# Altium footprint library con-yamaichi.PCBLIB: 44 footprints (part 3 of 3)
Each footprint in its own frame and in the unit in brackets; x right, y up, seen from the top. Pads: shape width x height; smd on the part's side, far side on the other; paste and mask are expansions set on the pad; w line width, h text height; cw(c..) or ccw(c..) is an arc to the next point about the centre after c.
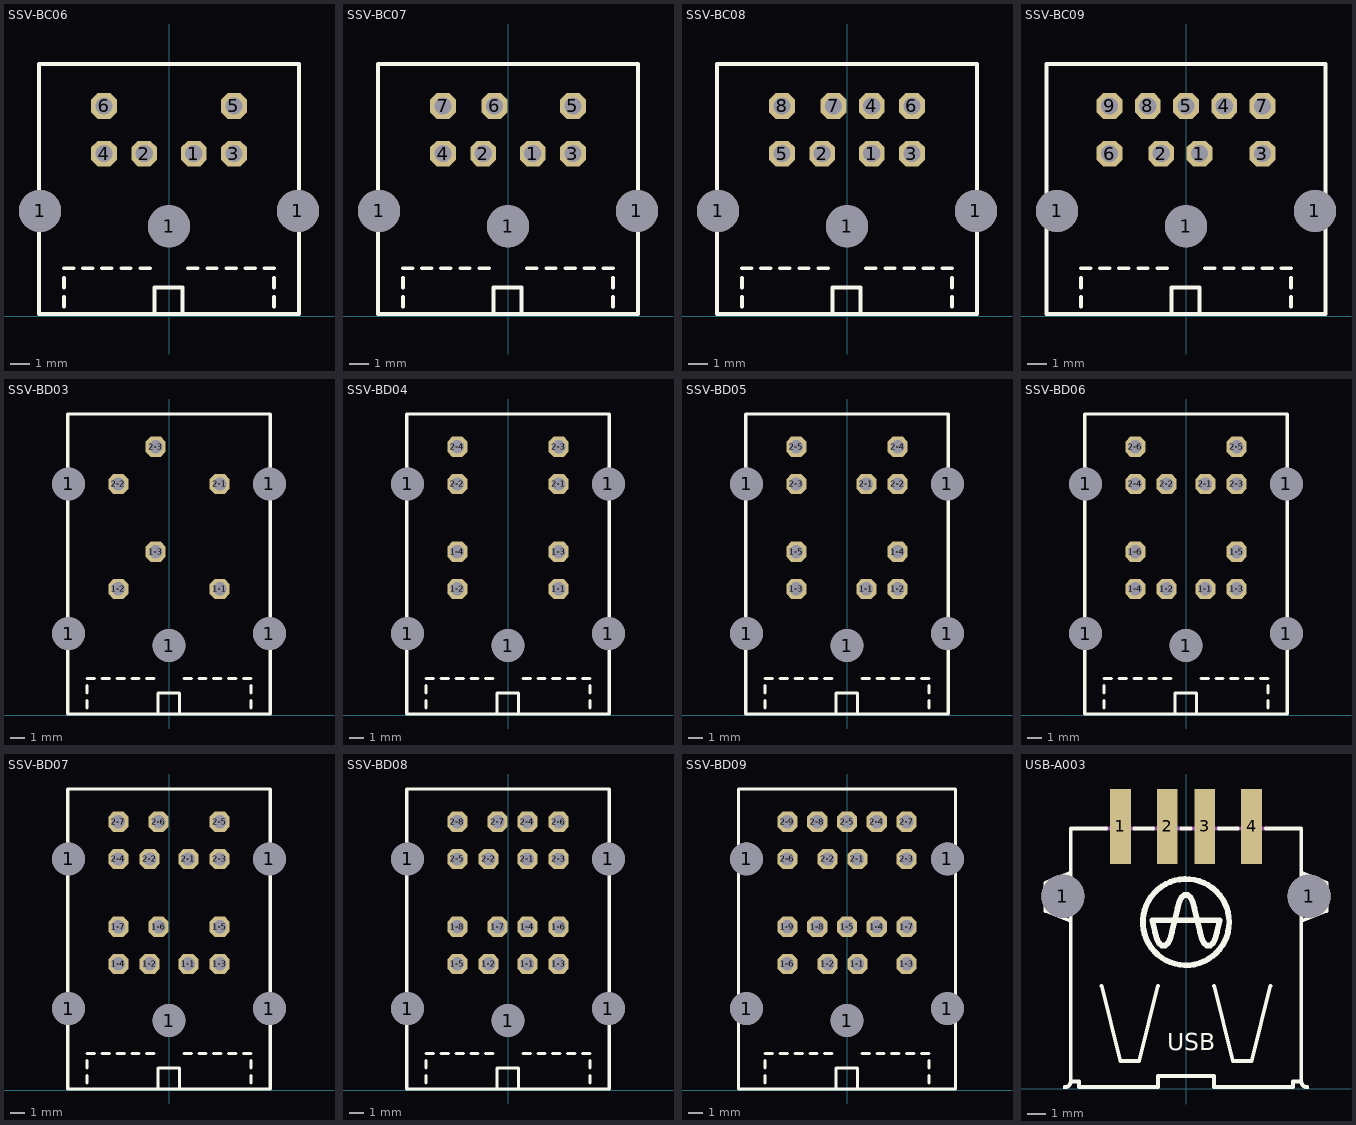
[diagram p2: the footprints below, top view; thin cyan lines are the x and y axes]

## SSV-BC06 [mm]
pads (9):
  round 2.2 hole 2.2: 1(-6.75,5.5) 1(0,4.7) 1(6.75,5.5)
  oct 1.35x1.35 hole 0.9: 1(1.3,8.5) 2(-1.3,8.5) 3(3.4,8.5) 4(-3.4,8.5) 5(3.4,11) 6(-3.4,11)
Top Overlay:
  lines w0.203: -5.5,0.5 -5.5,1 ; -5.5,1.5 -5.5,2 ; -5.5,2.5 -5,2.5 ; -4.5,2.5 -4,2.5 ; -3.5,2.5 -3,2.5 ; -2.5,2.5 -2,2.5 ; -1.5,2.5 -1,2.5 ; -0.75,0.1 -0.75,1.5 0.7,1.5 0.7,0.1 ; 1,2.5 1.5,2.5 ; 2,2.5 2.5,2.5 ; 3,2.5 3.5,2.5 ; 4,2.5 4.5,2.5 ; 5,2.5 5.5,2.5 ; 5.5,0.5 5.5,1 ; 5.5,1.5 5.5,2 ; -6.8,0.1 6.8,0.1 6.8,13.2 -6.8,13.2 -6.8,0.1

## SSV-BC07 [mm]
pads (10):
  round 2.2 hole 2.2: 1(-6.75,5.5) 1(0,4.7) 1(6.75,5.5)
  oct 1.35x1.35 hole 0.9: 1(1.3,8.5) 2(-1.3,8.5) 3(3.4,8.5) 4(-3.4,8.5) 5(3.4,11) 6(-0.7,11) 7(-3.4,11)
Top Overlay:
  lines w0.203: -5.5,0.5 -5.5,1 ; -5.5,1.5 -5.5,2 ; -5.5,2.5 -5,2.5 ; -4.5,2.5 -4,2.5 ; -3.5,2.5 -3,2.5 ; -2.5,2.5 -2,2.5 ; -1.5,2.5 -1,2.5 ; -0.75,0.1 -0.75,1.5 0.7,1.5 0.7,0.1 ; 1,2.5 1.5,2.5 ; 2,2.5 2.5,2.5 ; 3,2.5 3.5,2.5 ; 4,2.5 4.5,2.5 ; 5,2.5 5.5,2.5 ; 5.5,0.5 5.5,1 ; 5.5,1.5 5.5,2 ; -6.8,0.1 6.8,0.1 6.8,13.2 -6.8,13.2 -6.8,0.1

## SSV-BC08 [mm]
pads (11):
  round 2.2 hole 2.2: 1(-6.75,5.5) 1(0,4.7) 1(6.75,5.5)
  oct 1.35x1.35 hole 0.9: 1(1.3,8.5) 2(-1.3,8.5) 3(3.4,8.5) 4(1.3,11) 5(-3.4,8.5) 6(3.4,11) 7(-0.7,11) 8(-3.4,11)
Top Overlay:
  lines w0.203: -5.5,0.5 -5.5,1 ; -5.5,1.5 -5.5,2 ; -5.5,2.5 -5,2.5 ; -4.5,2.5 -4,2.5 ; -3.5,2.5 -3,2.5 ; -2.5,2.5 -2,2.5 ; -1.5,2.5 -1,2.5 ; -0.75,0.1 -0.75,1.5 0.7,1.5 0.7,0.1 ; 1,2.5 1.5,2.5 ; 2,2.5 2.5,2.5 ; 3,2.5 3.5,2.5 ; 4,2.5 4.5,2.5 ; 5,2.5 5.5,2.5 ; 5.5,0.5 5.5,1 ; 5.5,1.5 5.5,2 ; -6.8,0.1 6.8,0.1 6.8,13.2 -6.8,13.2 -6.8,0.1

## SSV-BC09 [mm]
pads (12):
  round 2.2 hole 2.2: 1(-6.75,5.5) 1(0,4.7) 1(6.75,5.5)
  oct 1.35x1.35 hole 0.9: 1(0.7,8.5) 2(-1.3,8.5) 3(4,8.5) 4(2,11) 5(0,11) 6(-4,8.5) 7(4,11) 8(-2,11) 9(-4,11)
Top Overlay:
  lines w0.203: -5.5,0.5 -5.5,1 ; -5.5,1.5 -5.5,2 ; -5.5,2.5 -5,2.5 ; -4.5,2.5 -4,2.5 ; -3.5,2.5 -3,2.5 ; -2.5,2.5 -2,2.5 ; -1.5,2.5 -1,2.5 ; -0.75,0.1 -0.75,1.5 0.7,1.5 0.7,0.1 ; 1,2.5 1.5,2.5 ; 2,2.5 2.5,2.5 ; 3,2.5 3.5,2.5 ; 4,2.5 4.5,2.5 ; 5,2.5 5.5,2.5 ; 5.5,0.5 5.5,1 ; 5.5,1.5 5.5,2 ; -7.3,0.1 7.3,0.1 7.3,13.2 -7.3,13.2 -7.3,0.1

## SSV-BD03 [mm]
pads (11):
  round 2.2 hole 2.2: 1(-6.75,5.5) 1(-6.75,15.55) 1(0,4.7) 1(6.75,5.5) 1(6.75,15.55)
  oct 1.35x1.35 hole 0.9: 1-1(3.4,8.5) 1-2(-3.4,8.5) 1-3(-0.9,11) 2-1(3.4,15.55) 2-2(-3.4,15.55) 2-3(-0.9,18.05)
Top Overlay:
  lines w0.203: -5.5,0.5 -5.5,1 ; -5.5,1.5 -5.5,2 ; -5.5,2.5 -5,2.5 ; -4.5,2.5 -4,2.5 ; -3.5,2.5 -3,2.5 ; -2.5,2.5 -2,2.5 ; -1.5,2.5 -1,2.5 ; -0.75,0.1 -0.75,1.5 0.7,1.5 0.7,0.1 ; 1,2.5 1.5,2.5 ; 2,2.5 2.5,2.5 ; 3,2.5 3.5,2.5 ; 4,2.5 4.5,2.5 ; 5,2.5 5.5,2.5 ; 5.5,0.5 5.5,1 ; 5.5,1.5 5.5,2 ; -6.8,0.1 6.8,0.1 6.8,20.25 -6.8,20.25 -6.8,0.1

## SSV-BD04 [mm]
pads (13):
  round 2.2 hole 2.2: 1(-6.75,5.5) 1(-6.75,15.55) 1(0,4.7) 1(6.75,5.5) 1(6.75,15.55)
  oct 1.35x1.35 hole 0.9: 1-1(3.4,8.5) 1-2(-3.4,8.5) 1-3(3.4,11) 1-4(-3.4,11) 2-1(3.4,15.55) 2-2(-3.4,15.55) 2-3(3.4,18.05) 2-4(-3.4,18.05)
Top Overlay:
  lines w0.203: -5.5,0.5 -5.5,1 ; -5.5,1.5 -5.5,2 ; -5.5,2.5 -5,2.5 ; -4.5,2.5 -4,2.5 ; -3.5,2.5 -3,2.5 ; -2.5,2.5 -2,2.5 ; -1.5,2.5 -1,2.5 ; -0.75,0.1 -0.75,1.5 0.7,1.5 0.7,0.1 ; 1,2.5 1.5,2.5 ; 2,2.5 2.5,2.5 ; 3,2.5 3.5,2.5 ; 4,2.5 4.5,2.5 ; 5,2.5 5.5,2.5 ; 5.5,0.5 5.5,1 ; 5.5,1.5 5.5,2 ; -6.8,0.1 6.8,0.1 6.8,20.25 -6.8,20.25 -6.8,0.1

## SSV-BD05 [mm]
pads (15):
  round 2.2 hole 2.2: 1(-6.75,5.5) 1(-6.75,15.55) 1(0,4.7) 1(6.75,5.5) 1(6.75,15.55)
  oct 1.35x1.35 hole 0.9: 1-1(1.3,8.5) 1-2(3.4,8.5) 1-3(-3.4,8.5) 1-4(3.4,11) 1-5(-3.4,11) 2-1(1.3,15.55) 2-2(3.4,15.55) 2-3(-3.4,15.55) 2-4(3.4,18.05) 2-5(-3.4,18.05)
Top Overlay:
  lines w0.203: -5.5,0.5 -5.5,1 ; -5.5,1.5 -5.5,2 ; -5.5,2.5 -5,2.5 ; -4.5,2.5 -4,2.5 ; -3.5,2.5 -3,2.5 ; -2.5,2.5 -2,2.5 ; -1.5,2.5 -1,2.5 ; -0.75,0.1 -0.75,1.5 0.7,1.5 0.7,0.1 ; 1,2.5 1.5,2.5 ; 2,2.5 2.5,2.5 ; 3,2.5 3.5,2.5 ; 4,2.5 4.5,2.5 ; 5,2.5 5.5,2.5 ; 5.5,0.5 5.5,1 ; 5.5,1.5 5.5,2 ; -6.8,0.1 6.8,0.1 6.8,20.25 -6.8,20.25 -6.8,0.1

## SSV-BD06 [mm]
pads (17):
  round 2.2 hole 2.2: 1(-6.75,5.5) 1(-6.75,15.55) 1(0,4.7) 1(6.75,5.5) 1(6.75,15.55)
  oct 1.35x1.35 hole 0.9: 1-1(1.3,8.5) 1-2(-1.3,8.5) 1-3(3.4,8.5) 1-4(-3.4,8.5) 1-5(3.4,11) 1-6(-3.4,11) 2-1(1.3,15.55) 2-2(-1.3,15.55) 2-3(3.4,15.55) 2-4(-3.4,15.55) 2-5(3.4,18.05) 2-6(-3.4,18.05)
Top Overlay:
  lines w0.203: -5.5,0.5 -5.5,1 ; -5.5,1.5 -5.5,2 ; -5.5,2.5 -5,2.5 ; -4.5,2.5 -4,2.5 ; -3.5,2.5 -3,2.5 ; -2.5,2.5 -2,2.5 ; -1.5,2.5 -1,2.5 ; -0.75,0.1 -0.75,1.5 0.7,1.5 0.7,0.1 ; 1,2.5 1.5,2.5 ; 2,2.5 2.5,2.5 ; 3,2.5 3.5,2.5 ; 4,2.5 4.5,2.5 ; 5,2.5 5.5,2.5 ; 5.5,0.5 5.5,1 ; 5.5,1.5 5.5,2 ; -6.8,0.1 6.8,0.1 6.8,20.25 -6.8,20.25 -6.8,0.1

## SSV-BD07 [mm]
pads (19):
  round 2.2 hole 2.2: 1(-6.75,5.5) 1(-6.75,15.55) 1(0,4.7) 1(6.75,5.5) 1(6.75,15.55)
  oct 1.35x1.35 hole 0.9: 1-1(1.3,8.5) 1-2(-1.3,8.5) 1-3(3.4,8.5) 1-4(-3.4,8.5) 1-5(3.4,11) 1-6(-0.7,11) 1-7(-3.4,11) 2-1(1.3,15.55) 2-2(-1.3,15.55) 2-3(3.4,15.55) 2-4(-3.4,15.55) 2-5(3.4,18.05) 2-6(-0.7,18.05) 2-7(-3.4,18.05)
Top Overlay:
  lines w0.203: -5.5,0.5 -5.5,1 ; -5.5,1.5 -5.5,2 ; -5.5,2.5 -5,2.5 ; -4.5,2.5 -4,2.5 ; -3.5,2.5 -3,2.5 ; -2.5,2.5 -2,2.5 ; -1.5,2.5 -1,2.5 ; -0.75,0.1 -0.75,1.5 0.7,1.5 0.7,0.1 ; 1,2.5 1.5,2.5 ; 2,2.5 2.5,2.5 ; 3,2.5 3.5,2.5 ; 4,2.5 4.5,2.5 ; 5,2.5 5.5,2.5 ; 5.5,0.5 5.5,1 ; 5.5,1.5 5.5,2 ; -6.8,0.1 6.8,0.1 6.8,20.25 -6.8,20.25 -6.8,0.1

## SSV-BD08 [mm]
pads (21):
  round 2.2 hole 2.2: 1(-6.75,5.5) 1(-6.75,15.55) 1(0,4.7) 1(6.75,5.5) 1(6.75,15.55)
  oct 1.35x1.35 hole 0.9: 1-1(1.3,8.5) 1-2(-1.3,8.5) 1-3(3.4,8.5) 1-4(1.3,11) 1-5(-3.4,8.5) 1-6(3.4,11) 1-7(-0.7,11) 1-8(-3.4,11) 2-1(1.3,15.55) 2-2(-1.3,15.55) 2-3(3.4,15.55) 2-4(1.3,18.05) 2-5(-3.4,15.55) 2-6(3.4,18.05) 2-7(-0.7,18.05) 2-8(-3.4,18.05)
Top Overlay:
  lines w0.203: -5.5,0.5 -5.5,1 ; -5.5,1.5 -5.5,2 ; -5.5,2.5 -5,2.5 ; -4.5,2.5 -4,2.5 ; -3.5,2.5 -3,2.5 ; -2.5,2.5 -2,2.5 ; -1.5,2.5 -1,2.5 ; -0.75,0.1 -0.75,1.5 0.7,1.5 0.7,0.1 ; 1,2.5 1.5,2.5 ; 2,2.5 2.5,2.5 ; 3,2.5 3.5,2.5 ; 4,2.5 4.5,2.5 ; 5,2.5 5.5,2.5 ; 5.5,0.5 5.5,1 ; 5.5,1.5 5.5,2 ; -6.8,0.1 6.8,0.1 6.8,20.25 -6.8,20.25 -6.8,0.1

## SSV-BD09 [mm]
pads (23):
  round 2.2 hole 2.2: 1(-6.75,5.5) 1(-6.75,15.55) 1(0,4.7) 1(6.75,5.5) 1(6.75,15.55)
  oct 1.35x1.35 hole 0.9: 1-1(0.7,8.5) 1-2(-1.3,8.5) 1-3(4,8.5) 1-4(2,11) 1-5(0,11) 1-6(-4,8.5) 1-7(4,11) 1-8(-2,11) 1-9(-4,11) 2-1(0.7,15.55) 2-2(-1.3,15.55) 2-3(4,15.55) 2-4(2,18.05) 2-5(0,18.05) 2-6(-4,15.55) 2-7(4,18.05) 2-8(-2,18.05) 2-9(-4,18.05)
Top Overlay:
  lines w0.203: -5.5,0.5 -5.5,1 ; -5.5,1.5 -5.5,2 ; -5.5,2.5 -5,2.5 ; -4.5,2.5 -4,2.5 ; -3.5,2.5 -3,2.5 ; -2.5,2.5 -2,2.5 ; -1.5,2.5 -1,2.5 ; -0.75,0.1 -0.75,1.5 0.7,1.5 0.7,0.1 ; 1,2.5 1.5,2.5 ; 2,2.5 2.5,2.5 ; 3,2.5 3.5,2.5 ; 4,2.5 4.5,2.5 ; 5,2.5 5.5,2.5 ; 5.5,0.5 5.5,1 ; 5.5,1.5 5.5,2 ; -7.3,0.1 7.3,0.1 7.3,20.25 -7.3,20.25 -7.3,0.1

## USB-A003 [mm]
pads (6):
  round 2.3 hole 2.3: 1(-6.57,10.28) 1(6.57,10.28)
  rect 1.12x4 smd: 1(-3.5,14) 2(-1,14) 3(1,14) 4(3.5,14)
Top Overlay:
  circle w0.305: c0,8.9 r2.302
  rectangle: -6.55,0 -6.45,0.2
  rectangle: 6.45,0 6.55,0.2
  lines w0.203: -6.45,0.1 ccw(c-6.45,0.4) -6.15,0.4 ; -6.25,9 -7.5,9.5 -7.5,11 -6.25,11.5 ; -4.5,5.5 -3.5,1.5 -2.5,1.5 -1.5,5.5 ; -4.25,13.9 -6.15,13.9 -6.15,0.4 ; -2.75,13.9 -1.75,13.9 ; -0.25,13.9 0.25,13.9 ; 1.5,5.5 2.5,1.5 3.5,1.5 4.5,5.5 ; 1.75,13.9 2.75,13.9 ; 4.25,13.9 6.15,13.9 6.15,0.4 ; 6.25,9 7.5,9.5 7.5,11 6.25,11.5 ; 6.45,0.1 cw(c6.45,0.4) 6.15,0.4 ; -6.15,0.4 -5.7,0.4 -5.7,0.1 -1.5,0.1 -1.5,0.7 1.5,0.7 1.5,0.1 5.7,0.1 5.7,0.4 6.15,0.4
  lines w0.305: -1.8,9 -1.65,8.35 -1.55,8 -1.45,7.8 -1.3,7.65 -1.1,7.65 -0.95,7.8 -0.85,8 -0.75,8.35 -0.45,9.65 -0.35,10 -0.25,10.2 -0.1,10.35 0.1,10.35 0.25,10.2 0.35,10 0.45,9.65 0.75,8.35 0.85,8 0.95,7.8 1.1,7.65 1.3,7.65 1.45,7.8 1.55,8 1.65,8.35 1.8,9 ; -1.75,9 1.75,9
  text "USB" at -1,1.75 h1.57
Mechanical 16:
  lines w0.203: -4.25,13.9 -2.75,13.9 ; -1.75,13.9 -0.25,13.9 ; 0.25,13.9 1.75,13.9 ; 2.75,13.9 4.25,13.9